# Altium schematic symbol library 352118RFT.SchLib: 2 symbols
Pins are listed as number, name and electrical type; pins without a type are passive.

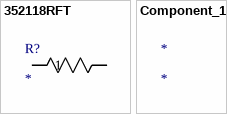
[diagram p0: symbols 352118RFT to Component_1]

## 352118RFT
designator R?
No Description Available; Mfr_Name: TE Connectivity
footprint RES_352118RFT_TEC
pins: 1, 2

## Component_1
designator *